# Altium schematic symbol library EMZL250ARA471MHA0G.SchLib: 1 symbol
Pins are listed as number, name and electrical type; pins without a type are passive.

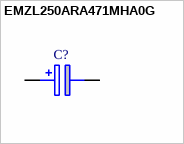
[diagram p0: symbol EMZL250ARA471MHA0G]

## EMZL250ARA471MHA0G
designator C?
Aluminum Electrolytic Capacitors - SMD 470uF 25V AEC-Q200; Manufacturer_Name: United Chemi-Con; Geometry.Height: 10.5mm; Mouser Part Number: 661-EMZL250ARA471MHA; Mouser Price/Stock: https://www.mouser.co.uk/ProductDetail/United-Chemi-Con/EMZL250ARA471MHA0G?qs=GBLSl2Akirs0SrxTHlCA0A%3D%3D; Manufacturer_Part_Number: EMZL250ARA471MHA0G; Datasheet Link: *
footprint CAPAE830X1050N
pins: 1 +, 2 -